# Altium schematic symbol library scd4x.SchLib: 1 symbol
Pins are listed as number, name and electrical type; pins without a type are passive.

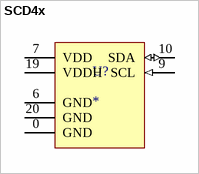
[diagram p0: symbol SCD4x]

## SCD4x
designator U?
pins: 0 GND (power), 6 GND (power), 7 VDD (power), 9 SCL (in), 10 SDA (io), 19 VDDH (power), 20 GND (power)